# Altium schematic symbol library Display.SchLib: 1 symbol
Pins are listed as number, name and electrical type; pins without a type are passive.

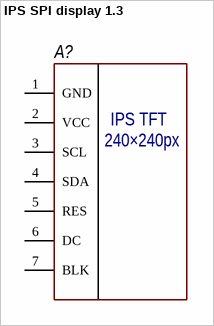
[diagram p0: symbol IPS SPI display 1.3]

## IPS SPI display 1.3
designator A?  (value not drawn)
footprint IPS SPI display 1.3
pins: 1 GND, 2 VCC, 3 SCL, 4 SDA, 5 RES, 6 DC, 7 BLK
text: IPS TFT; 240×240px